# Altium schematic symbol library fe2_1.SchLib: 1 symbol
Pins are listed as number, name and electrical type; pins without a type are passive.

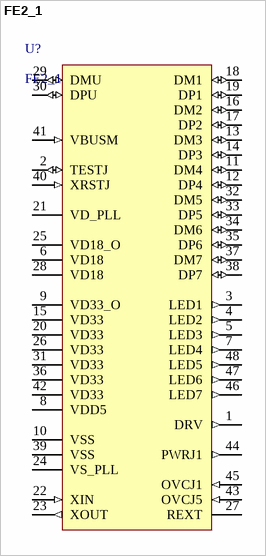
[diagram p0: symbol FE2_1]

## FE2_1
designator U?
pins: 1 DRV (out), 2 TESTJ (io), 3 LED1 (out), 4 LED2 (out), 5 LED3 (out), 6 VD18 (power), 7 LED4 (out), 8 VDD5 (power), 9 VD33_O (power), 10 VSS (power), 11 DM4 (io), 12 DP4 (io), 13 DM3 (io), 14 DP3 (io), 15 VD33 (power), 16 DM2 (io), 17 DP2 (io), 18 DM1 (io), 19 DP1 (io), 20 VD33 (power), 21 VD_PLL (power), 22 XIN (in), 23 XOUT (out), 24 VS_PLL (power), 25 VD18_O (power), 26 VD33 (power), 27 REXT, 28 VD18 (power), 29 DMU (io), 30 DPU (io), 31 VD33 (power), 32 DM5 (io), 33 DP5 (io), 34 DM6 (io), 35 DP6 (io), 36 VD33 (power), 37 DM7 (io), 38 DP7 (io), 39 VSS (power), 40 XRSTJ (in), 41 VBUSM (in), 42 VD33 (power), 43 OVCJ5 (in), 44 PWRJ1 (out), 45 OVCJ1 (in), 46 LED7 (out), 47 LED6 (out), 48 LED5 (out)